# EAGLE library part MESA_7I96 (library fcch_eagle_parts_metal_mill)
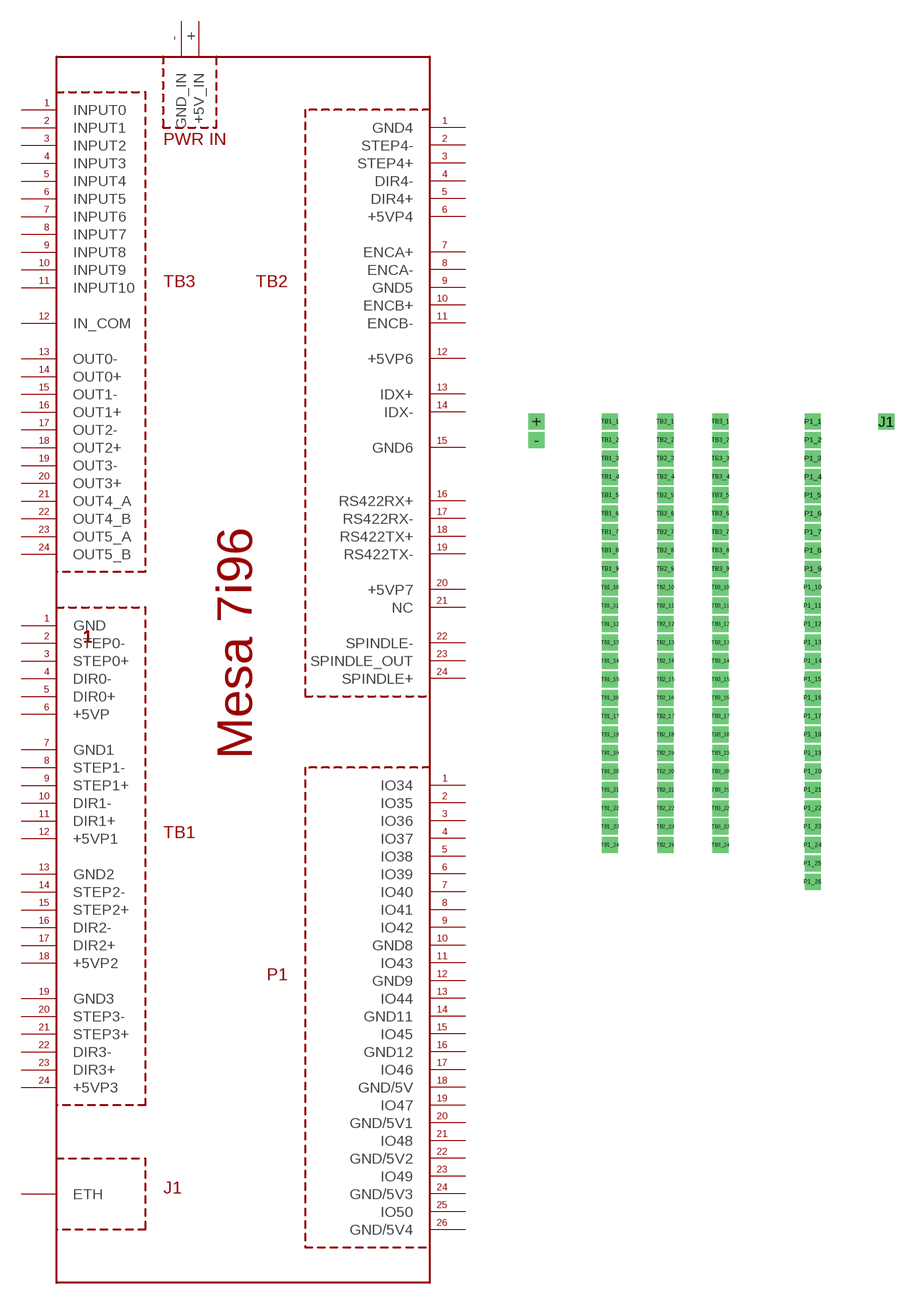
[diagram p0: symbol with the pads of 7I96; footprint 7I96]

Designator prefix -

## MESA_7I96  [7I96]
+  +5V_IN
-  GND_IN
J1  ETH
P1_1  IO34
P1_2  IO35
P1_3  IO36
P1_4  IO37
P1_5  IO38
P1_6  IO39
P1_7  IO40
P1_8  IO41
P1_9  IO42
P1_10  GND8
P1_11  IO43
P1_12  GND9
P1_13  IO44
P1_14  GND12
P1_15  IO45
P1_16  GND11
P1_17  IO46
P1_18  GND/5V1
P1_19  IO47
P1_20  GND/5V2
P1_21  IO48
P1_22  GND/5V
P1_23  IO49
P1_24  GND/5V3
P1_25  IO50
P1_26  GND/5V4
TB1_1  GND
TB1_2  STEP0-
TB1_3  STEP0+
TB1_4  DIR0-
TB1_5  DIR0+
TB1_6  +5VP  pwr
TB1_7  GND1
TB1_8  STEP1-
TB1_9  STEP1+
TB1_10  DIR1-
TB1_11  DIR1+
TB1_12  +5VP1  pwr
TB1_13  GND2
TB1_14  STEP2-
TB1_15  STEP2+
TB1_16  DIR2-
TB1_17  DIR2+
TB1_18  +5VP2
TB1_19  GND3
TB1_20  STEP3-
TB1_21  STEP3+
TB1_22  DIR3-
TB1_23  DIR3+
TB1_24  +5VP3
TB2_1  GND4
TB2_2  STEP4-
TB2_3  STEP4+
TB2_4  DIR4-
TB2_5  DIR4+
TB2_6  +5VP4  pwr
TB2_7  ENCA+
TB2_8  ENCA-
TB2_9  GND5
TB2_10  ENCB+
TB2_11  ENCB-
TB2_12  +5VP6
TB2_13  IDX+
TB2_14  IDX-
TB2_15  GND6
TB2_16  RS422RX+
TB2_17  RS422RX-
TB2_18  RS422TX+
TB2_19  RS422TX-
TB2_20  +5VP7
TB2_21  NC
TB2_22  SPINDLE-
TB2_23  SPINDLE_OUT
TB2_24  SPINDLE+
TB3_1  INPUT0  in
TB3_2  INPUT1  in
TB3_3  INPUT2  in
TB3_4  INPUT3  in
TB3_5  INPUT4  in
TB3_6  INPUT5  in
TB3_7  INPUT6  in
TB3_8  INPUT7  in
TB3_9  INPUT8  in
TB3_10  INPUT9  in
TB3_11  INPUT10  in
TB3_12  IN_COM  in
TB3_13  OUT0-
TB3_14  OUT0+
TB3_15  OUT1-
TB3_16  OUT1+
TB3_17  OUT2-
TB3_18  OUT2+
TB3_19  OUT3-
TB3_20  OUT3+
TB3_21  OUT4_A
TB3_22  OUT4_B
TB3_23  OUT5_A
TB3_24  OUT5_B

## Footprint 7I96 (pad centres in mm)
drill 0.6 square: + -13.97,8.89; - -13.97,7.62; J1 10.16,8.89; P1_1 5.08,8.89; P1_2 5.08,7.62; P1_3 5.08,6.35; P1_4 5.08,5.08; P1_5 5.08,3.81; P1_6 5.08,2.54; P1_7 5.08,1.27; P1_8 5.08,0; P1_9 5.08,-1.27; P1_10 5.08,-2.54; P1_11 5.08,-3.81; P1_12 5.08,-5.08; P1_13 5.08,-6.35; P1_14 5.08,-7.62; P1_15 5.08,-8.89; P1_16 5.08,-10.16; P1_17 5.08,-11.43; P1_18 5.08,-12.7; P1_19 5.08,-13.97; P1_20 5.08,-15.24; P1_21 5.08,-16.51; P1_22 5.08,-17.78; P1_23 5.08,-19.05; P1_24 5.08,-20.32; P1_25 5.08,-21.59; P1_26 5.08,-22.86; TB1_1 -8.89,8.89; TB1_2 -8.89,7.62; TB1_3 -8.89,6.35; TB1_4 -8.89,5.08; TB1_5 -8.89,3.81; TB1_6 -8.89,2.54; TB1_7 -8.89,1.27; TB1_8 -8.89,0; TB1_9 -8.89,-1.27; TB1_10 -8.89,-2.54; TB1_11 -8.89,-3.81; TB1_12 -8.89,-5.08; TB1_13 -8.89,-6.35; TB1_14 -8.89,-7.62; TB1_15 -8.89,-8.89; TB1_16 -8.89,-10.16; TB1_17 -8.89,-11.43; TB1_18 -8.89,-12.7; TB1_19 -8.89,-13.97; TB1_20 -8.89,-15.24; TB1_21 -8.89,-16.51; TB1_22 -8.89,-17.78; TB1_23 -8.89,-19.05; TB1_24 -8.89,-20.32; TB2_1 -5.08,8.89; TB2_2 -5.08,7.62; TB2_3 -5.08,6.35; TB2_4 -5.08,5.08; TB2_5 -5.08,3.81; TB2_6 -5.08,2.54; TB2_7 -5.08,1.27; TB2_8 -5.08,0; TB2_9 -5.08,-1.27; TB2_10 -5.08,-2.54; TB2_11 -5.08,-3.81; TB2_12 -5.08,-5.08; TB2_13 -5.08,-6.35; TB2_14 -5.08,-7.62; TB2_15 -5.08,-8.89; TB2_16 -5.08,-10.16; TB2_17 -5.08,-11.43; TB2_18 -5.08,-12.7; TB2_19 -5.08,-13.97; TB2_20 -5.08,-15.24; TB2_21 -5.08,-16.51; TB2_22 -5.08,-17.78; TB2_23 -5.08,-19.05; TB2_24 -5.08,-20.32; TB3_1 -1.27,8.89; TB3_2 -1.27,7.62; TB3_3 -1.27,6.35; TB3_4 -1.27,5.08; TB3_5 -1.27,3.81; TB3_6 -1.27,2.54; TB3_7 -1.27,1.27; TB3_8 -1.27,0; TB3_9 -1.27,-1.27; TB3_10 -1.27,-2.54; TB3_11 -1.27,-3.81; TB3_12 -1.27,-5.08; TB3_13 -1.27,-6.35; TB3_14 -1.27,-7.62; TB3_15 -1.27,-8.89; TB3_16 -1.27,-10.16; TB3_17 -1.27,-11.43; TB3_18 -1.27,-12.7; TB3_19 -1.27,-13.97; TB3_20 -1.27,-15.24; TB3_21 -1.27,-16.51; TB3_22 -1.27,-17.78; TB3_23 -1.27,-19.05; TB3_24 -1.27,-20.32